# Altium footprint library Nexperia.PcbLib: 2 footprints
Each footprint in its own frame and in the unit in brackets; x right, y up, seen from the top. Pads: shape width x height; smd on the part's side, far side on the other; paste and mask are expansions set on the pad; w line width, h text height; cw(c..) or ccw(c..) is an arc to the next point about the centre after c.
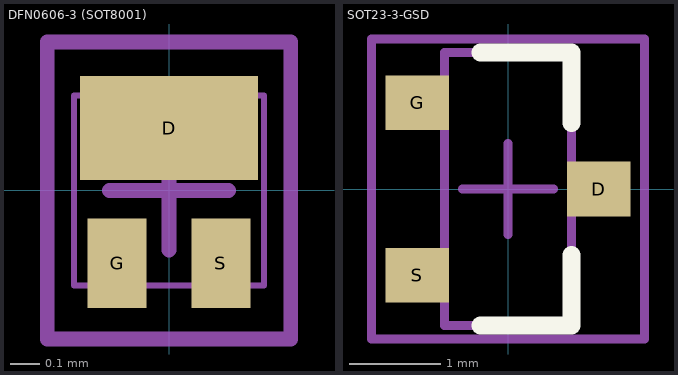
[diagram p0: the footprints below, top view; thin cyan lines are the x and y axes]

## DFN0606-3 (SOT8001) [mm] "Nexperia footprint."
pads (3):
  rect 0.6x0.35 smd paste-0.05 mask+0: D(0,0.21)
  rect 0.2x0.3 smd paste+0 mask+0: G(-0.175,-0.245) S(0.175,-0.245)
Top Solder:
  rectangle: -0.35,-0.44 0.35,0.44
Top 3D Body:
  lines w0.02: -0.32,-0.32 -0.32,0.32 0.32,0.32 0.32,-0.32 -0.32,-0.32
Top Assembly (Mech15):
  lines w0.05: -0.2,0 0.2,0 ; 0,-0.2 0,0.2 ; -0.41,-0.5 0.41,-0.5 0.41,0.5 -0.41,0.5 -0.41,-0.5
3D body "SOT8001.step": height 0.36, standoff -0.01, extent -0.31,-0.31 0.31,0.31

## SOT23-3-GSD [mm] "Nexperia STO23-3 MOSFET footprint"
pads (3):
  rect 0.7x0.6 smd paste-0.1: D(1,0) G(-1,0.95) S(-1,-0.95)
Top Overlay:
  lines w0.2: -0.3,-1.5 0.7,-1.5 0.7,-0.725 ; -0.3,1.5 0.7,1.5 0.7,0.725
Top 3D Body:
  lines w0.1: -0.7,-1.5 -0.7,1.5 0.7,1.5 0.7,-1.5 -0.7,-1.5
Top Assembly (Mech15):
  lines w0.1: -0.5,0 0.5,0 ; 0,-0.5 0,0.5 ; -1.5,-1.65 -1.5,1.65 1.5,1.65 1.5,-1.65 -1.5,-1.65
3D body "Nexperia_SOT23.step": height 1.09, standoff 0, extent -1.245,-1.499 1.245,1.499